# Altium integrated library TI Power Management Lighting and Display.IntLib: 745 symbols (part 1 of 48)
Pins are listed as number, name and electrical type; pins without a type are passive.

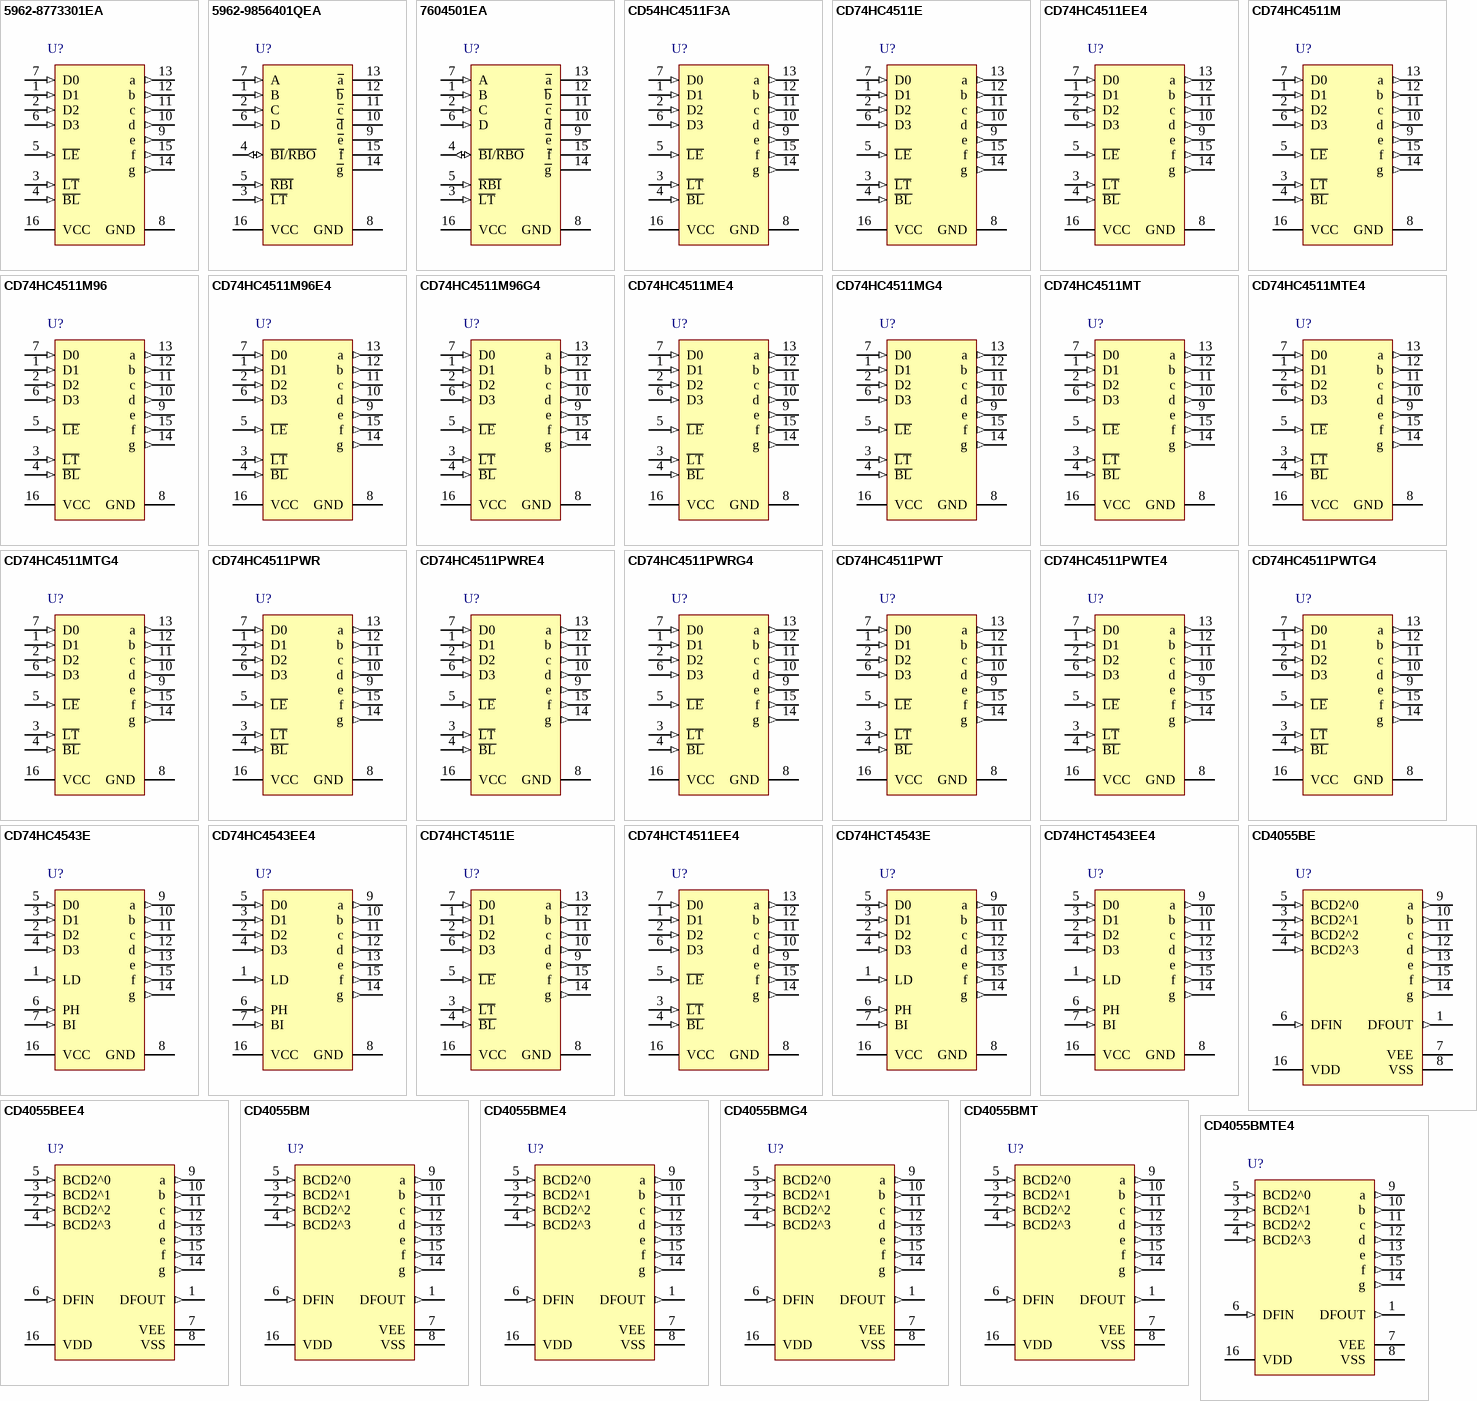
[diagram p0: symbols 5962-8773301EA to CD4055BMTE4]

## 5962-8773301EA
designator U?
High Speed CMOS Logic BCD-to-7-Segment Latch / Decoder / Driver, 2 to 6 V, -55 to 125 degC, 16-pin DIP (J16); Manufacturer: Texas Instruments; PartNumber: 5962-8773301EA; Rating: Military; SubFamily: Discrete Segment LED Driver; Vin(Max)(V): 6; Vin(Min)(V): 2; DatasheetVersion: SCHS279D; PackageVersion: 4040083/F; PackageReference: J16; PackageDescription: 16-pin, Ceramic, Glass In-Line, Row Spacing 7.62 mm, Pitch 2.54 mm; Mounting Technology: Through Hole; ComponentLink1Description: Manufacturer URL; ComponentLink1URL: http://www.ti.com/; ComponentLink2Description: Datasheet; ComponentLink2URL: http://www.ti.com/general/docs/lit/getliterature.tsp?genericPartNumber=CD54HC4511&fileType=pdf; ComponentLink3Description: Package Specification; ComponentLink3URL: http://www.ti.com/lit/ds/symlink/uc1543.pdf
footprint TI-J16 (DIP, 16-Leads, Body 21.34x6.92 mm, Pitch 2.54 mm)
pins: 1 D1 (in), 2 D2 (in), 3 ~{LT} (in), 4 ~{BL} (in), 5 ~{LE} (in), 6 D3 (in), 7 D0 (in), 8 GND (power), 9 e (out), 10 d (out), 11 c (out), 12 b (out), 13 a (out), 14 g (out), 15 f (out), 16 VCC (power)

## 5962-9856401QEA
designator U?
BCD-to-7-Segment Decoder / Driver, 4.5 to 5.5 V, -55 to 125 degC, 16-pin DIP (J16); Manufacturer: Texas Instruments; PartNumber: 5962-9856401QEA; SubFamily: Discrete Segment LED Driver; Vin(Max)(V): 5.5; Vin(Min)(V): 4.5; DatasheetVersion: SDLS111; PackageVersion: 4040083/F; PackageReference: J16; PackageDescription: 16-pin, Ceramic, Glass In-Line, Row Spacing 7.62 mm, Pitch 2.54 mm; Mounting Technology: Through Hole; ComponentLink1Description: Manufacturer URL; ComponentLink1URL: http://www.ti.com/; ComponentLink2Description: Datasheet; ComponentLink2URL: http://www.ti.com/general/docs/lit/getliterature.tsp?genericPartNumber=SN5447A&fileType=pdf; ComponentLink3Description: Package Specification; ComponentLink3URL: http://www.ti.com/lit/ds/symlink/uc1543.pdf
footprint TI-J16 (DIP, 16-Leads, Body 21.34x6.92 mm, Pitch 2.54 mm)
pins: 1 B (in), 2 C (in), 3 ~{LT} (in), 4 ~{BI}/~{RBO} (io), 5 ~{RBI} (in), 6 D (in), 7 A (in), 8 GND (power), 9 ~{e} (oc), 10 ~{d} (oc), 11 ~{c} (oc), 12 ~{b} (oc), 13 ~{a} (oc), 14 ~{g} (oc), 15 ~{f} (oc), 16 VCC (power)

## 7604501EA
designator U?
BCD-to-7-Segment Decoder / Driver, 4.5 to 5.5 V, -55 to 125 degC, 16-pin DIP (J16); Manufacturer: Texas Instruments; PartNumber: 7604501EA; Rating: Military; SubFamily: Discrete Segment LED Driver; Vin(Max)(V): 5.5; Vin(Min)(V): 4.5; DatasheetVersion: SDLS111; PackageVersion: 4040083/F; PackageReference: J16; PackageDescription: 16-pin, Ceramic, Glass In-Line, Row Spacing 7.62 mm, Pitch 2.54 mm; Mounting Technology: Through Hole; ComponentLink1Description: Manufacturer URL; ComponentLink1URL: http://www.ti.com/; ComponentLink2Description: Datasheet; ComponentLink2URL: http://www.ti.com/general/docs/lit/getliterature.tsp?genericPartNumber=SN54LS47&fileType=pdf; ComponentLink3Description: Package Specification; ComponentLink3URL: http://www.ti.com/lit/ds/symlink/uc1543.pdf
footprint TI-J16 (DIP, 16-Leads, Body 21.34x6.92 mm, Pitch 2.54 mm)
pins: 1 B (in), 2 C (in), 3 ~{LT} (in), 4 ~{BI}/~{RBO} (io), 5 ~{RBI} (in), 6 D (in), 7 A (in), 8 GND (power), 9 ~{e} (oc), 10 ~{d} (oc), 11 ~{c} (oc), 12 ~{b} (oc), 13 ~{a} (oc), 14 ~{g} (oc), 15 ~{f} (oc), 16 VCC (power)

## CD54HC4511F3A
designator U?
High Speed CMOS Logic BCD-to-7-Segment Latch / Decoder / Driver, 2 to 6 V, -55 to 125 degC, 16-pin DIP (J16); Manufacturer: Texas Instruments; PartNumber: CD54HC4511F3A; Rating: Military; SubFamily: Discrete Segment LED Driver; Vin(Max)(V): 6; Vin(Min)(V): 2; DatasheetVersion: SCHS279D; PackageVersion: 4040083/F; PackageReference: J16; PackageDescription: 16-Pin Ceramic, Glass In-Line, Row Spacing 7.62 mm, Pitch 2.54 mm; Mounting Technology: Through Hole; ComponentLink1Description: Manufacturer URL; ComponentLink1URL: http://www.ti.com/; ComponentLink2Description: Datasheet; ComponentLink2URL: http://www.ti.com/general/docs/lit/getliterature.tsp?genericPartNumber=CD54HC4511&fileType=pdf; ComponentLink3Description: Package Specification; ComponentLink3URL: http://www.ti.com/litv/pdf/mcer002d
footprint TI-J16 (DIP, 16-Leads, Body 21.34x6.92mm, Row Spacing 7.62mm, Pitch 2.54mm)
pins: 1 D1 (in), 2 D2 (in), 3 ~{LT} (in), 4 ~{BL} (in), 5 ~{LE} (in), 6 D3 (in), 7 D0 (in), 8 GND (power), 9 e (out), 10 d (out), 11 c (out), 12 b (out), 13 a (out), 14 g (out), 15 f (out), 16 VCC (power)

## CD74HC4511E
designator U?
High Speed CMOS Logic BCD-to-7-Segment Latch / Decoder / Driver, 2 to 6 V, -55 to 125 degC, 16-pin DIP (N16), Pb-Free (RoHS); Manufacturer: Texas Instruments; PartNumber: CD74HC4511E; Rating: Catalog; SubFamily: Discrete Segment LED Driver; Vin(Max)(V): 6; Vin(Min)(V): 2; DatasheetVersion: SCHS279D; PackageVersion: 4040049/E; PackageReference: N16; PackageDescription: 16-Pin Plastic In-Line, Body 19.305 x 6.35 mm, Pitch 2.54 mm; Supplier 1: Digi-Key; Supplier Part Number 1: 296-14537-5-ND; Supplier 2: Farnell; Supplier Part Number 2: 1607681; Supplier 3: Newark; Supplier Part Number 3: 60K5164; Supplier 4: Mouser; Supplier Part Number 4: 595-CD74HC4511E; Eco-Plan: Pb-Free (RoHS); Mounting Technology: Through Hole; Code_JEDEC: MS-001; ComponentLink1Description: Manufacturer URL; ComponentLink1URL: http://www.ti.com/; ComponentLink2Description: Datasheet; ComponentLink2URL: http://www.ti.com/general/docs/lit/getliterature.tsp?genericPartNumber=CD74HC4511&fileType=pdf; ComponentLink3Description: Package Specification; ComponentLink3URL: http://www.ti.com/litv/pdf/mpdi002c
footprint TI-N16 (DIP, 16-Leads, Body 19.305x6.35 mm, Pitch 2.54 mm)
pins: 1 D1 (in), 2 D2 (in), 3 ~{LT} (in), 4 ~{BL} (in), 5 ~{LE} (in), 6 D3 (in), 7 D0 (in), 8 GND (power), 9 e (out), 10 d (out), 11 c (out), 12 b (out), 13 a (out), 14 g (out), 15 f (out), 16 VCC (power)

## CD74HC4511EE4
designator U?
High Speed CMOS Logic BCD-to-7-Segment Latch / Decoder / Driver, 2 to 6 V, -55 to 125 degC, 16-pin DIP (N16), Pb-Free (RoHS); Manufacturer: Texas Instruments; PartNumber: CD74HC4511EE4; Rating: Catalog; SubFamily: Discrete Segment LED Driver; Vin(Max)(V): 6; Vin(Min)(V): 2; DatasheetVersion: SCHS279D; PackageVersion: 4040049/E; PackageReference: N16; PackageDescription: 16-Pin Plastic In-Line, Body 19.305 x 6.35 mm, Pitch 2.54 mm; Supplier 1: Digi-Key; Supplier Part Number 1: CD74HC4511EE4-ND; Supplier 2: Newark; Supplier Part Number 2: 36K9762; Supplier 3: Mouser; Supplier Part Number 3: 595-CD74HC4511EE4; Eco-Plan: Pb-Free (RoHS); Mounting Technology: Through Hole; Code_JEDEC: MS-001; ComponentLink1Description: Manufacturer URL; ComponentLink1URL: http://www.ti.com/; ComponentLink2Description: Datasheet; ComponentLink2URL: http://www.ti.com/general/docs/lit/getliterature.tsp?genericPartNumber=CD74HC4511&fileType=pdf; ComponentLink3Description: Package Specification; ComponentLink3URL: http://www.ti.com/litv/pdf/mpdi002c
footprint TI-N16 (DIP, 16-Leads, Body 19.305x6.35 mm, Pitch 2.54 mm)
pins: 1 D1 (in), 2 D2 (in), 3 ~{LT} (in), 4 ~{BL} (in), 5 ~{LE} (in), 6 D3 (in), 7 D0 (in), 8 GND (power), 9 e (out), 10 d (out), 11 c (out), 12 b (out), 13 a (out), 14 g (out), 15 f (out), 16 VCC (power)

## CD74HC4511M
designator U?
High Speed CMOS Logic BCD-to-7-Segment Latch / Decoder / Driver, 2 to 6 V, -55 to 125 degC, 16-pin SOIC (D16), Green (RoHS & no Sb/Br); Manufacturer: Texas Instruments; PartNumber: CD74HC4511M; Rating: Catalog; SubFamily: Discrete Segment LED Driver; Vin(Max)(V): 6; Vin(Min)(V): 2; DatasheetVersion: SCHS279D; PackageVersion: 4040047-6/M; PackageReference: D16; PackageDescription: 16-Pin Plastic Small Outline, Body 9.90 x 3.90 mm, Pitch 1.27 mm; Supplier 1: Digi-Key; Supplier Part Number 1: 296-9232-5-ND; Supplier 2: Farnell; Supplier Part Number 2: 1740056; Supplier 3: Newark; Supplier Part Number 3: 50R5451; Supplier 4: Newark; Supplier Part Number 4: 66F5517; Supplier 5: Mouser; Supplier Part Number 5: 595-CD74HC4511M; Eco-Plan: Green (RoHS & no Sb/Br); Mounting Technology: Surface Mount; Code_JEDEC: MS-012; ComponentLink1Description: Manufacturer URL; ComponentLink1URL: http://www.ti.com/; ComponentLink2Description: Datasheet; ComponentLink2URL: http://www.ti.com/general/docs/lit/getliterature.tsp?genericPartNumber=CD74HC4511&fileType=pdf; ComponentLink3Description: Package Specification; ComponentLink3URL: http://www.ti.com/litv/pdf/mpds178g
footprint TI-D16_N (SOIC, 16-Leads, Body 9.9x3.9mm, Pitch 1.27mm, IPC Medium Density)
footprint TI-D16_L (SOIC, 16-Leads, Body 9.9x3.9mm, Pitch 1.27mm, IPC High Density)
footprint TI-D16_M (SOIC, 16-Leads, Body 9.9x3.9mm, Pitch 1.27mm, IPC Low Density)
pins: 1 D1 (in), 2 D2 (in), 3 ~{LT} (in), 4 ~{BL} (in), 5 ~{LE} (in), 6 D3 (in), 7 D0 (in), 8 GND (power), 9 e (out), 10 d (out), 11 c (out), 12 b (out), 13 a (out), 14 g (out), 15 f (out), 16 VCC (power)

## CD74HC4511M96
designator U?
High Speed CMOS Logic BCD-to-7-Segment Latch / Decoder / Driver, 2 to 6 V, -55 to 125 degC, 16-pin SOIC (D16), Green (RoHS & no Sb/Br); Manufacturer: Texas Instruments; PartNumber: CD74HC4511M96; Rating: Catalog; SubFamily: Discrete Segment LED Driver; Vin(Max)(V): 6; Vin(Min)(V): 2; DatasheetVersion: SCHS279D; PackageVersion: 4040047-6/M; PackageReference: D16; PackageDescription: 16-Pin Plastic Small Outline, Body 9.90 x 3.90 mm, Pitch 1.27 mm; Supplier 1: Digi-Key; Supplier Part Number 1: 296-24355-2-ND; Supplier 2: Digi-Key; Supplier Part Number 2: 296-24355-1-ND; Supplier 3: Digi-Key; Supplier Part Number 3: 296-24355-6-ND; Supplier 4: Newark; Supplier Part Number 4: 74C8320; Supplier 5: Mouser; Supplier Part Number 5: 595-CD74HC4511M96; Eco-Plan: Green (RoHS & no Sb/Br); Mounting Technology: Surface Mount; Code_JEDEC: MS-012; ComponentLink1Description: Manufacturer URL; ComponentLink1URL: http://www.ti.com/; ComponentLink2Description: Datasheet; ComponentLink2URL: http://www.ti.com/general/docs/lit/getliterature.tsp?genericPartNumber=CD74HC4511&fileType=pdf; ComponentLink3Description: Package Specification; ComponentLink3URL: http://www.ti.com/litv/pdf/mpds178g
footprint TI-D16_N (SOIC, 16-Leads, Body 9.9x3.9mm, Pitch 1.27mm, IPC Medium Density)
footprint TI-D16_L (SOIC, 16-Leads, Body 9.9x3.9mm, Pitch 1.27mm, IPC High Density)
footprint TI-D16_M (SOIC, 16-Leads, Body 9.9x3.9mm, Pitch 1.27mm, IPC Low Density)
pins: 1 D1 (in), 2 D2 (in), 3 ~{LT} (in), 4 ~{BL} (in), 5 ~{LE} (in), 6 D3 (in), 7 D0 (in), 8 GND (power), 9 e (out), 10 d (out), 11 c (out), 12 b (out), 13 a (out), 14 g (out), 15 f (out), 16 VCC (power)

## CD74HC4511M96E4
designator U?
High Speed CMOS Logic BCD-to-7-Segment Latch / Decoder / Driver, 2 to 6 V, -55 to 125 degC, 16-pin SOIC (D16), Green (RoHS & no Sb/Br); Manufacturer: Texas Instruments; PartNumber: CD74HC4511M96E4; Rating: Catalog; SubFamily: Discrete Segment LED Driver; Vin(Max)(V): 6; Vin(Min)(V): 2; DatasheetVersion: SCHS279D; PackageVersion: 4040047-6/M; PackageReference: D16; PackageDescription: 16-Pin Plastic Small Outline, Body 9.90 x 3.90 mm, Pitch 1.27 mm; Supplier 1: Digi-Key; Supplier Part Number 1: CD74HC4511M96E4-ND; Supplier 2: Mouser; Supplier Part Number 2: 595-CD74HC4511M96E4; Eco-Plan: Green (RoHS & no Sb/Br); Mounting Technology: Surface Mount; Code_JEDEC: MS-012; ComponentLink1Description: Manufacturer URL; ComponentLink1URL: http://www.ti.com/; ComponentLink2Description: Datasheet; ComponentLink2URL: http://www.ti.com/general/docs/lit/getliterature.tsp?genericPartNumber=CD74HC4511&fileType=pdf; ComponentLink3Description: Package Specification; ComponentLink3URL: http://www.ti.com/litv/pdf/mpds178g
footprint TI-D16_N (SOIC, 16-Leads, Body 9.9x3.9mm, Pitch 1.27mm, IPC Medium Density)
footprint TI-D16_L (SOIC, 16-Leads, Body 9.9x3.9mm, Pitch 1.27mm, IPC High Density)
footprint TI-D16_M (SOIC, 16-Leads, Body 9.9x3.9mm, Pitch 1.27mm, IPC Low Density)
pins: 1 D1 (in), 2 D2 (in), 3 ~{LT} (in), 4 ~{BL} (in), 5 ~{LE} (in), 6 D3 (in), 7 D0 (in), 8 GND (power), 9 e (out), 10 d (out), 11 c (out), 12 b (out), 13 a (out), 14 g (out), 15 f (out), 16 VCC (power)

## CD74HC4511M96G4
designator U?
High Speed CMOS Logic BCD-to-7-Segment Latch / Decoder / Driver, 2 to 6 V, -55 to 125 degC, 16-pin SOIC (D16), Green (RoHS & no Sb/Br); Manufacturer: Texas Instruments; PartNumber: CD74HC4511M96G4; Rating: Catalog; SubFamily: Discrete Segment LED Driver; Vin(Max)(V): 6; Vin(Min)(V): 2; DatasheetVersion: SCHS279D; PackageVersion: 4040047-6/M; PackageReference: D16; PackageDescription: 16-Pin Plastic Small Outline, Body 9.90 x 3.90 mm, Pitch 1.27 mm; Supplier 1: Digi-Key; Supplier Part Number 1: CD74HC4511M96G4-ND; Supplier 2: Newark; Supplier Part Number 2: 41M3083; Supplier 3: Mouser; Supplier Part Number 3: 595-CD74HC4511M96G4; Eco-Plan: Green (RoHS & no Sb/Br); Mounting Technology: Surface Mount; Code_JEDEC: MS-012; ComponentLink1Description: Manufacturer URL; ComponentLink1URL: http://www.ti.com/; ComponentLink2Description: Datasheet; ComponentLink2URL: http://www.ti.com/general/docs/lit/getliterature.tsp?genericPartNumber=CD74HC4511&fileType=pdf; ComponentLink3Description: Package Specification; ComponentLink3URL: http://www.ti.com/litv/pdf/mpds178g
footprint TI-D16_N (SOIC, 16-Leads, Body 9.9x3.9mm, Pitch 1.27mm, IPC Medium Density)
footprint TI-D16_L (SOIC, 16-Leads, Body 9.9x3.9mm, Pitch 1.27mm, IPC High Density)
footprint TI-D16_M (SOIC, 16-Leads, Body 9.9x3.9mm, Pitch 1.27mm, IPC Low Density)
pins: 1 D1 (in), 2 D2 (in), 3 ~{LT} (in), 4 ~{BL} (in), 5 ~{LE} (in), 6 D3 (in), 7 D0 (in), 8 GND (power), 9 e (out), 10 d (out), 11 c (out), 12 b (out), 13 a (out), 14 g (out), 15 f (out), 16 VCC (power)

## CD74HC4511ME4
designator U?
High Speed CMOS Logic BCD-to-7-Segment Latch / Decoder / Driver, 2 to 6 V, -55 to 125 degC, 16-pin SOIC (D16), Green (RoHS & no Sb/Br); Manufacturer: Texas Instruments; PartNumber: CD74HC4511ME4; Rating: Catalog; SubFamily: Discrete Segment LED Driver; Vin(Max)(V): 6; Vin(Min)(V): 2; DatasheetVersion: SCHS279D; PackageVersion: 4040047-6/M; PackageReference: D16; PackageDescription: 16-Pin Plastic Small Outline, Body 9.90 x 3.90 mm, Pitch 1.27 mm; Supplier 1: Digi-Key; Supplier Part Number 1: CD74HC4511ME4-ND; Supplier 2: Mouser; Supplier Part Number 2: 595-CD74HC4511ME4; Eco-Plan: Green (RoHS & no Sb/Br); Mounting Technology: Surface Mount; Code_JEDEC: MS-012; ComponentLink1Description: Manufacturer URL; ComponentLink1URL: http://www.ti.com/; ComponentLink2Description: Datasheet; ComponentLink2URL: http://www.ti.com/general/docs/lit/getliterature.tsp?genericPartNumber=CD74HC4511&fileType=pdf; ComponentLink3Description: Package Specification; ComponentLink3URL: http://www.ti.com/litv/pdf/mpds178g
footprint TI-D16_N (SOIC, 16-Leads, Body 9.9x3.9mm, Pitch 1.27mm, IPC Medium Density)
footprint TI-D16_L (SOIC, 16-Leads, Body 9.9x3.9mm, Pitch 1.27mm, IPC High Density)
footprint TI-D16_M (SOIC, 16-Leads, Body 9.9x3.9mm, Pitch 1.27mm, IPC Low Density)
pins: 1 D1 (in), 2 D2 (in), 3 ~{LT} (in), 4 ~{BL} (in), 5 ~{LE} (in), 6 D3 (in), 7 D0 (in), 8 GND (power), 9 e (out), 10 d (out), 11 c (out), 12 b (out), 13 a (out), 14 g (out), 15 f (out), 16 VCC (power)

## CD74HC4511MG4
designator U?
High Speed CMOS Logic BCD-to-7-Segment Latch / Decoder / Driver, 2 to 6 V, -55 to 125 degC, 16-pin SOIC (D16), Green (RoHS & no Sb/Br); Manufacturer: Texas Instruments; PartNumber: CD74HC4511MG4; Rating: Catalog; SubFamily: Discrete Segment LED Driver; Vin(Max)(V): 6; Vin(Min)(V): 2; DatasheetVersion: SCHS279D; PackageVersion: 4040047-6/M; PackageReference: D16; PackageDescription: 16-Pin Plastic Small Outline, Body 9.90 x 3.90 mm, Pitch 1.27 mm; Supplier 1: Digi-Key; Supplier Part Number 1: CD74HC4511MG4-ND; Supplier 2: Mouser; Supplier Part Number 2: 595-CD74HC4511MG4; Eco-Plan: Green (RoHS & no Sb/Br); Mounting Technology: Surface Mount; Code_JEDEC: MS-012; ComponentLink1Description: Manufacturer URL; ComponentLink1URL: http://www.ti.com/; ComponentLink2Description: Datasheet; ComponentLink2URL: http://www.ti.com/general/docs/lit/getliterature.tsp?genericPartNumber=CD74HC4511&fileType=pdf; ComponentLink3Description: Package Specification; ComponentLink3URL: http://www.ti.com/litv/pdf/mpds178g
footprint TI-D16_N (SOIC, 16-Leads, Body 9.9x3.9mm, Pitch 1.27mm, IPC Medium Density)
footprint TI-D16_L (SOIC, 16-Leads, Body 9.9x3.9mm, Pitch 1.27mm, IPC High Density)
footprint TI-D16_M (SOIC, 16-Leads, Body 9.9x3.9mm, Pitch 1.27mm, IPC Low Density)
pins: 1 D1 (in), 2 D2 (in), 3 ~{LT} (in), 4 ~{BL} (in), 5 ~{LE} (in), 6 D3 (in), 7 D0 (in), 8 GND (power), 9 e (out), 10 d (out), 11 c (out), 12 b (out), 13 a (out), 14 g (out), 15 f (out), 16 VCC (power)

## CD74HC4511MT
designator U?
High Speed CMOS Logic BCD-to-7-Segment Latch / Decoder / Driver, 2 to 6 V, -55 to 125 degC, 16-pin SOIC (D16), Green (RoHS & no Sb/Br); Manufacturer: Texas Instruments; PartNumber: CD74HC4511MT; Rating: Catalog; SubFamily: Discrete Segment LED Driver; Vin(Max)(V): 6; Vin(Min)(V): 2; DatasheetVersion: SCHS279D; PackageVersion: 4040047-6/M; PackageReference: D16; PackageDescription: 16-Pin Plastic Small Outline, Body 9.90 x 3.90 mm, Pitch 1.27 mm; Supplier 1: Digi-Key; Supplier Part Number 1: CD74HC4511MT-ND; Supplier 2: Farnell; Supplier Part Number 2: 1753718; Supplier 3: Farnell; Supplier Part Number 3: 1753718RL; Supplier 4: Newark; Supplier Part Number 4: 86H9765; Supplier 5: Mouser; Supplier Part Number 5: 595-CD74HC4511MT; Eco-Plan: Green (RoHS & no Sb/Br); Mounting Technology: Surface Mount; Code_JEDEC: MS-012; ComponentLink1Description: Manufacturer URL; ComponentLink1URL: http://www.ti.com/; ComponentLink2Description: Datasheet; ComponentLink2URL: http://www.ti.com/general/docs/lit/getliterature.tsp?genericPartNumber=CD74HC4511&fileType=pdf; ComponentLink3Description: Package Specification; ComponentLink3URL: http://www.ti.com/litv/pdf/mpds178g
footprint TI-D16_N (SOIC, 16-Leads, Body 9.9x3.9mm, Pitch 1.27mm, IPC Medium Density)
footprint TI-D16_L (SOIC, 16-Leads, Body 9.9x3.9mm, Pitch 1.27mm, IPC High Density)
footprint TI-D16_M (SOIC, 16-Leads, Body 9.9x3.9mm, Pitch 1.27mm, IPC Low Density)
pins: 1 D1 (in), 2 D2 (in), 3 ~{LT} (in), 4 ~{BL} (in), 5 ~{LE} (in), 6 D3 (in), 7 D0 (in), 8 GND (power), 9 e (out), 10 d (out), 11 c (out), 12 b (out), 13 a (out), 14 g (out), 15 f (out), 16 VCC (power)

## CD74HC4511MTE4
designator U?
High Speed CMOS Logic BCD-to-7-Segment Latch / Decoder / Driver, 2 to 6 V, -55 to 125 degC, 16-pin SOIC (D16), Green (RoHS & no Sb/Br); Manufacturer: Texas Instruments; PartNumber: CD74HC4511MTE4; Rating: Catalog; SubFamily: Discrete Segment LED Driver; Vin(Max)(V): 6; Vin(Min)(V): 2; DatasheetVersion: SCHS279D; PackageVersion: 4040047-6/M; PackageReference: D16; PackageDescription: 16-Pin Plastic Small Outline, Body 9.90 x 3.90 mm, Pitch 1.27 mm; Supplier 1: Digi-Key; Supplier Part Number 1: CD74HC4511MTE4-ND; Supplier 2: Newark; Supplier Part Number 2: 36K9764; Supplier 3: Mouser; Supplier Part Number 3: 595-CD74HC4511MTE4; Eco-Plan: Green (RoHS & no Sb/Br); Mounting Technology: Surface Mount; Code_JEDEC: MS-012; ComponentLink1Description: Manufacturer URL; ComponentLink1URL: http://www.ti.com/; ComponentLink2Description: Datasheet; ComponentLink2URL: http://www.ti.com/general/docs/lit/getliterature.tsp?genericPartNumber=CD74HC4511&fileType=pdf; ComponentLink3Description: Package Specification; ComponentLink3URL: http://www.ti.com/litv/pdf/mpds178g
footprint TI-D16_N (SOIC, 16-Leads, Body 9.9x3.9mm, Pitch 1.27mm, IPC Medium Density)
footprint TI-D16_L (SOIC, 16-Leads, Body 9.9x3.9mm, Pitch 1.27mm, IPC High Density)
footprint TI-D16_M (SOIC, 16-Leads, Body 9.9x3.9mm, Pitch 1.27mm, IPC Low Density)
pins: 1 D1 (in), 2 D2 (in), 3 ~{LT} (in), 4 ~{BL} (in), 5 ~{LE} (in), 6 D3 (in), 7 D0 (in), 8 GND (power), 9 e (out), 10 d (out), 11 c (out), 12 b (out), 13 a (out), 14 g (out), 15 f (out), 16 VCC (power)

## CD74HC4511MTG4
designator U?
High Speed CMOS Logic BCD-to-7-Segment Latch / Decoder / Driver, 2 to 6 V, -55 to 125 degC, 16-pin SOIC (D16), Green (RoHS & no Sb/Br); Manufacturer: Texas Instruments; PartNumber: CD74HC4511MTG4; Rating: Catalog; SubFamily: Discrete Segment LED Driver; Vin(Max)(V): 6; Vin(Min)(V): 2; DatasheetVersion: SCHS279D; PackageVersion: 4040047-6/M; PackageReference: D16; PackageDescription: 16-Pin Plastic Small Outline, Body 9.90 x 3.90 mm, Pitch 1.27 mm; Supplier 1: Digi-Key; Supplier Part Number 1: CD74HC4511MTG4-ND; Supplier 2: Mouser; Supplier Part Number 2: 595-CD74HC4511MTG4; Eco-Plan: Green (RoHS & no Sb/Br); Mounting Technology: Surface Mount; Code_JEDEC: MS-012; ComponentLink1Description: Manufacturer URL; ComponentLink1URL: http://www.ti.com/; ComponentLink2Description: Datasheet; ComponentLink2URL: http://www.ti.com/general/docs/lit/getliterature.tsp?genericPartNumber=CD74HC4511&fileType=pdf; ComponentLink3Description: Package Specification; ComponentLink3URL: http://www.ti.com/litv/pdf/mpds178g
footprint TI-D16_N (SOIC, 16-Leads, Body 9.9x3.9mm, Pitch 1.27mm, IPC Medium Density)
footprint TI-D16_L (SOIC, 16-Leads, Body 9.9x3.9mm, Pitch 1.27mm, IPC High Density)
footprint TI-D16_M (SOIC, 16-Leads, Body 9.9x3.9mm, Pitch 1.27mm, IPC Low Density)
pins: 1 D1 (in), 2 D2 (in), 3 ~{LT} (in), 4 ~{BL} (in), 5 ~{LE} (in), 6 D3 (in), 7 D0 (in), 8 GND (power), 9 e (out), 10 d (out), 11 c (out), 12 b (out), 13 a (out), 14 g (out), 15 f (out), 16 VCC (power)

## CD74HC4511PWR
designator U?
High Speed CMOS Logic BCD-to-7-Segment Latch / Decoder / Driver, 2 to 6 V, -55 to 125 degC, 16-pin SOP (PW16), Green (RoHS & no Sb/Br); Manufacturer: Texas Instruments; PartNumber: CD74HC4511PWR; Rating: Catalog; SubFamily: Discrete Segment LED Driver; Vin(Max)(V): 6; Vin(Min)(V): 2; DatasheetVersion: SCHS279D; PackageVersion: 4040064-4/G; PackageReference: PW16; PackageDescription: 16-Pin Plastic Small Outline, Body 4.40 x 5.00 mm, Pitch 0.65 mm; Supplier 1: Digi-Key; Supplier Part Number 1: 296-23208-2-ND; Supplier 2: Digi-Key; Supplier Part Number 2: 296-23208-1-ND; Supplier 3: Digi-Key; Supplier Part Number 3: 296-23208-6-ND; Supplier 4: Newark; Supplier Part Number 4: 74C8321; Supplier 5: Mouser; Supplier Part Number 5: 595-CD74HC4511PWR; Eco-Plan: Green (RoHS & no Sb/Br); Mounting Technology: Surface Mount; Code_JEDEC: MO-153; ComponentLink1Description: Manufacturer URL; ComponentLink1URL: http://www.ti.com/; ComponentLink2Description: Datasheet; ComponentLink2URL: http://www.ti.com/general/docs/lit/getliterature.tsp?genericPartNumber=CD74HC4511&fileType=pdf; ComponentLink3Description: Package Specification; ComponentLink3URL: http://www.ti.com/lit/ml/mpds361/mpds361.pdf
footprint TI-PW16_N (SOP, 16-Leads, Body 5x4.4mm, Pitch 0.65mm, IPC Medium Density)
footprint TI-PW16_L (SOP, 16-Leads, Body 5x4.4mm, Pitch 0.65mm, IPC High Density)
footprint TI-PW16_M (SOP, 16-Leads, Body 5x4.4mm, Pitch 0.65mm, IPC Low Density)
pins: 1 D1 (in), 2 D2 (in), 3 ~{LT} (in), 4 ~{BL} (in), 5 ~{LE} (in), 6 D3 (in), 7 D0 (in), 8 GND (power), 9 e (out), 10 d (out), 11 c (out), 12 b (out), 13 a (out), 14 g (out), 15 f (out), 16 VCC (power)

## CD74HC4511PWRE4
designator U?
High Speed CMOS Logic BCD-to-7-Segment Latch / Decoder / Driver, 2 to 6 V, -55 to 125 degC, 16-pin SOP (PW16), Green (RoHS & no Sb/Br); Manufacturer: Texas Instruments; PartNumber: CD74HC4511PWRE4; Rating: Catalog; SubFamily: Discrete Segment LED Driver; Vin(Max)(V): 6; Vin(Min)(V): 2; DatasheetVersion: SCHS279D; PackageVersion: 4040064-4/G; PackageReference: PW16; PackageDescription: 16-Pin Plastic Small Outline, Body 4.40 x 5.00 mm, Pitch 0.65 mm; Supplier 1: Digi-Key; Supplier Part Number 1: CD74HC4511PWRE4-ND; Supplier 2: Mouser; Supplier Part Number 2: 595-CD74HC4511PWRE4; Eco-Plan: Green (RoHS & no Sb/Br); Mounting Technology: Surface Mount; Code_JEDEC: MO-153; ComponentLink1Description: Manufacturer URL; ComponentLink1URL: http://www.ti.com/; ComponentLink2Description: Datasheet; ComponentLink2URL: http://www.ti.com/general/docs/lit/getliterature.tsp?genericPartNumber=CD74HC4511&fileType=pdf; ComponentLink3Description: Package Specification; ComponentLink3URL: http://www.ti.com/lit/ml/mpds361/mpds361.pdf
footprint TI-PW16_N (SOP, 16-Leads, Body 5x4.4mm, Pitch 0.65mm, IPC Medium Density)
footprint TI-PW16_L (SOP, 16-Leads, Body 5x4.4mm, Pitch 0.65mm, IPC High Density)
footprint TI-PW16_M (SOP, 16-Leads, Body 5x4.4mm, Pitch 0.65mm, IPC Low Density)
pins: 1 D1 (in), 2 D2 (in), 3 ~{LT} (in), 4 ~{BL} (in), 5 ~{LE} (in), 6 D3 (in), 7 D0 (in), 8 GND (power), 9 e (out), 10 d (out), 11 c (out), 12 b (out), 13 a (out), 14 g (out), 15 f (out), 16 VCC (power)

## CD74HC4511PWRG4
designator U?
High Speed CMOS Logic BCD-to-7-Segment Latch / Decoder / Driver, 2 to 6 V, -55 to 125 degC, 16-pin SOP (PW16), Green (RoHS & no Sb/Br); Manufacturer: Texas Instruments; PartNumber: CD74HC4511PWRG4; Rating: Catalog; SubFamily: Discrete Segment LED Driver; Vin(Max)(V): 6; Vin(Min)(V): 2; DatasheetVersion: SCHS279D; PackageVersion: 4040064-4/G; PackageReference: PW16; PackageDescription: 16-Pin Plastic Small Outline, Body 4.40 x 5.00 mm, Pitch 0.65 mm; Supplier 1: Digi-Key; Supplier Part Number 1: CD74HC4511PWRG4-ND; Supplier 2: Newark; Supplier Part Number 2: 46M6414; Supplier 3: Mouser; Supplier Part Number 3: 595-CD74HC4511PWRG4; Eco-Plan: Green (RoHS & no Sb/Br); Mounting Technology: Surface Mount; Code_JEDEC: MO-153; ComponentLink1Description: Manufacturer URL; ComponentLink1URL: http://www.ti.com/; ComponentLink2Description: Datasheet; ComponentLink2URL: http://www.ti.com/general/docs/lit/getliterature.tsp?genericPartNumber=CD74HC4511&fileType=pdf; ComponentLink3Description: Package Specification; ComponentLink3URL: http://www.ti.com/lit/ml/mpds361/mpds361.pdf
footprint TI-PW16_N (SOP, 16-Leads, Body 5x4.4mm, Pitch 0.65mm, IPC Medium Density)
footprint TI-PW16_L (SOP, 16-Leads, Body 5x4.4mm, Pitch 0.65mm, IPC High Density)
footprint TI-PW16_M (SOP, 16-Leads, Body 5x4.4mm, Pitch 0.65mm, IPC Low Density)
pins: 1 D1 (in), 2 D2 (in), 3 ~{LT} (in), 4 ~{BL} (in), 5 ~{LE} (in), 6 D3 (in), 7 D0 (in), 8 GND (power), 9 e (out), 10 d (out), 11 c (out), 12 b (out), 13 a (out), 14 g (out), 15 f (out), 16 VCC (power)

## CD74HC4511PWT
designator U?
High Speed CMOS Logic BCD-to-7-Segment Latch / Decoder / Driver, 2 to 6 V, -55 to 125 degC, 16-pin SOP (PW16), Green (RoHS & no Sb/Br); Manufacturer: Texas Instruments; PartNumber: CD74HC4511PWT; Rating: Catalog; SubFamily: Discrete Segment LED Driver; Vin(Max)(V): 6; Vin(Min)(V): 2; DatasheetVersion: SCHS279D; PackageVersion: 4040064-4/G; PackageReference: PW16; PackageDescription: 16-Pin Plastic Small Outline, Body 4.40 x 5.00 mm, Pitch 0.65 mm; Supplier 1: Digi-Key; Supplier Part Number 1: 296-32073-2-ND; Supplier 2: Digi-Key; Supplier Part Number 2: 296-32073-1-ND; Supplier 3: Digi-Key; Supplier Part Number 3: 296-32073-6-ND; Supplier 4: Farnell; Supplier Part Number 4: 1741577; Supplier 5: Farnell; Supplier Part Number 5: 1741577RL; Supplier 6: Newark; Supplier Part Number 6: 34R7086; Supplier 7: Newark; Supplier Part Number 7: 82H3224; Supplier 8: Mouser; Supplier Part Number 8: 595-CD74HC4511PWT; Eco-Plan: Green (RoHS & no Sb/Br); Mounting Technology: Surface Mount; Code_JEDEC: MO-153; ComponentLink1Description: Manufacturer URL; ComponentLink1URL: http://www.ti.com/; ComponentLink2Description: Datasheet; ComponentLink2URL: http://www.ti.com/general/docs/lit/getliterature.tsp?genericPartNumber=CD74HC4511&fileType=pdf; ComponentLink3Description: Package Specification; ComponentLink3URL: http://www.ti.com/lit/ml/mpds361/mpds361.pdf
footprint TI-PW16_N (SOP, 16-Leads, Body 5x4.4mm, Pitch 0.65mm, IPC Medium Density)
footprint TI-PW16_L (SOP, 16-Leads, Body 5x4.4mm, Pitch 0.65mm, IPC High Density)
footprint TI-PW16_M (SOP, 16-Leads, Body 5x4.4mm, Pitch 0.65mm, IPC Low Density)
pins: 1 D1 (in), 2 D2 (in), 3 ~{LT} (in), 4 ~{BL} (in), 5 ~{LE} (in), 6 D3 (in), 7 D0 (in), 8 GND (power), 9 e (out), 10 d (out), 11 c (out), 12 b (out), 13 a (out), 14 g (out), 15 f (out), 16 VCC (power)

## CD74HC4511PWTE4
designator U?
High Speed CMOS Logic BCD-to-7-Segment Latch / Decoder / Driver, 2 to 6 V, -55 to 125 degC, 16-pin SOP (PW16), Green (RoHS & no Sb/Br); Manufacturer: Texas Instruments; PartNumber: CD74HC4511PWTE4; Rating: Catalog; SubFamily: Discrete Segment LED Driver; Vin(Max)(V): 6; Vin(Min)(V): 2; DatasheetVersion: SCHS279D; PackageVersion: 4040064-4/G; PackageReference: PW16; PackageDescription: 16-Pin Plastic Small Outline, Body 4.40 x 5.00 mm, Pitch 0.65 mm; Supplier 1: Digi-Key; Supplier Part Number 1: CD74HC4511PWTE4-ND; Supplier 2: Newark; Supplier Part Number 2: 33K5103; Supplier 3: Mouser; Supplier Part Number 3: 595-CD74HC4511PWTE4; Eco-Plan: Green (RoHS & no Sb/Br); Mounting Technology: Surface Mount; Code_JEDEC: MO-153; ComponentLink1Description: Manufacturer URL; ComponentLink1URL: http://www.ti.com/; ComponentLink2Description: Datasheet; ComponentLink2URL: http://www.ti.com/general/docs/lit/getliterature.tsp?genericPartNumber=CD74HC4511&fileType=pdf; ComponentLink3Description: Package Specification; ComponentLink3URL: http://www.ti.com/lit/ml/mpds361/mpds361.pdf
footprint TI-PW16_N (SOP, 16-Leads, Body 5x4.4mm, Pitch 0.65mm, IPC Medium Density)
footprint TI-PW16_L (SOP, 16-Leads, Body 5x4.4mm, Pitch 0.65mm, IPC High Density)
footprint TI-PW16_M (SOP, 16-Leads, Body 5x4.4mm, Pitch 0.65mm, IPC Low Density)
pins: 1 D1 (in), 2 D2 (in), 3 ~{LT} (in), 4 ~{BL} (in), 5 ~{LE} (in), 6 D3 (in), 7 D0 (in), 8 GND (power), 9 e (out), 10 d (out), 11 c (out), 12 b (out), 13 a (out), 14 g (out), 15 f (out), 16 VCC (power)

## CD74HC4511PWTG4
designator U?
High Speed CMOS Logic BCD-to-7-Segment Latch / Decoder / Driver, 2 to 6 V, -55 to 125 degC, 16-pin SOP (PW16), Green (RoHS & no Sb/Br); Manufacturer: Texas Instruments; PartNumber: CD74HC4511PWTG4; Rating: Catalog; SubFamily: Discrete Segment LED Driver; Vin(Max)(V): 6; Vin(Min)(V): 2; DatasheetVersion: SCHS279D; PackageVersion: 4040064-4/G; PackageReference: PW16; PackageDescription: 16-Pin Plastic Small Outline, Body 4.40 x 5.00 mm, Pitch 0.65 mm; Supplier 1: Digi-Key; Supplier Part Number 1: CD74HC4511PWTG4-ND; Supplier 2: Newark; Supplier Part Number 2: 46M6415; Supplier 3: Mouser; Supplier Part Number 3: 595-CD74HC4511PWTG4; Eco-Plan: Green (RoHS & no Sb/Br); Mounting Technology: Surface Mount; Code_JEDEC: MO-153; ComponentLink1Description: Manufacturer URL; ComponentLink1URL: http://www.ti.com/; ComponentLink2Description: Datasheet; ComponentLink2URL: http://www.ti.com/general/docs/lit/getliterature.tsp?genericPartNumber=CD74HC4511&fileType=pdf; ComponentLink3Description: Package Specification; ComponentLink3URL: http://www.ti.com/lit/ml/mpds361/mpds361.pdf
footprint TI-PW16_N (SOP, 16-Leads, Body 5x4.4mm, Pitch 0.65mm, IPC Medium Density)
footprint TI-PW16_L (SOP, 16-Leads, Body 5x4.4mm, Pitch 0.65mm, IPC High Density)
footprint TI-PW16_M (SOP, 16-Leads, Body 5x4.4mm, Pitch 0.65mm, IPC Low Density)
pins: 1 D1 (in), 2 D2 (in), 3 ~{LT} (in), 4 ~{BL} (in), 5 ~{LE} (in), 6 D3 (in), 7 D0 (in), 8 GND (power), 9 e (out), 10 d (out), 11 c (out), 12 b (out), 13 a (out), 14 g (out), 15 f (out), 16 VCC (power)

## CD74HC4543E
designator U?
High Speed CMOS Logic BCD-to-7-Segment Latch / Decoder / Driver for LCDs, 2 to 6 V, -55 to 125 degC, 16-pin DIP (N16), Pb-Free (RoHS); Manufacturer: Texas Instruments; PartNumber: CD74HC4543E; Rating: Catalog; SubFamily: Discrete Segment LED Driver; Vin(Max)(V): 6; Vin(Min)(V): 2; DatasheetVersion: SCHS217B; PackageVersion: 4040049/E; PackageReference: N16; PackageDescription: 16-Pin Plastic In-Line, Body 19.305 x 6.35 mm, Pitch 2.54 mm; Supplier 1: Digi-Key; Supplier Part Number 1: 296-33104-5-ND; Supplier 2: Newark; Supplier Part Number 2: 06F3145; Supplier 3: Mouser; Supplier Part Number 3: 595-CD74HC4543E; Eco-Plan: Pb-Free (RoHS); Mounting Technology: Through Hole; Code_JEDEC: MS-001; ComponentLink1Description: Manufacturer URL; ComponentLink1URL: http://www.ti.com/; ComponentLink2Description: Datasheet; ComponentLink2URL: http://www.ti.com/general/docs/lit/getliterature.tsp?genericPartNumber=CD74HC4543&fileType=pdf; ComponentLink3Description: Package Specification; ComponentLink3URL: http://www.ti.com/litv/pdf/mpdi002c
footprint TI-N16 (DIP, 16-Leads, Body 19.305x6.35 mm, Pitch 2.54 mm)
pins: 1 LD (in), 2 D2 (in), 3 D1 (in), 4 D3 (in), 5 D0 (in), 6 PH (in), 7 BI (in), 8 GND (power), 9 a (out), 10 b (out), 11 c (out), 12 d (out), 13 e (out), 14 g (out), 15 f (out), 16 VCC (power)

## CD74HC4543EE4
designator U?
High Speed CMOS Logic BCD-to-7-Segment Latch / Decoder / Driver for LCDs, 2 to 6 V, -55 to 125 degC, 16-pin DIP (N16), Pb-Free (RoHS); Manufacturer: Texas Instruments; PartNumber: CD74HC4543EE4; Rating: Catalog; SubFamily: Discrete Segment LED Driver; Vin(Max)(V): 6; Vin(Min)(V): 2; DatasheetVersion: SCHS217B; PackageVersion: 4040049/E; PackageReference: N16; PackageDescription: 16-Pin Plastic In-Line, Body 19.305 x 6.35 mm, Pitch 2.54 mm; Supplier 1: Digi-Key; Supplier Part Number 1: CD74HC4543EE4-ND; Supplier 2: Mouser; Supplier Part Number 2: 595-CD74HC4543EE4; Eco-Plan: Pb-Free (RoHS); Mounting Technology: Through Hole; Code_JEDEC: MS-001; ComponentLink1Description: Manufacturer URL; ComponentLink1URL: http://www.ti.com/; ComponentLink2Description: Datasheet; ComponentLink2URL: http://www.ti.com/general/docs/lit/getliterature.tsp?genericPartNumber=CD74HC4543&fileType=pdf; ComponentLink3Description: Package Specification; ComponentLink3URL: http://www.ti.com/litv/pdf/mpdi002c
footprint TI-N16 (DIP, 16-Leads, Body 19.305x6.35 mm, Pitch 2.54 mm)
pins: 1 LD (in), 2 D2 (in), 3 D1 (in), 4 D3 (in), 5 D0 (in), 6 PH (in), 7 BI (in), 8 GND (power), 9 a (out), 10 b (out), 11 c (out), 12 d (out), 13 e (out), 14 g (out), 15 f (out), 16 VCC (power)

## CD74HCT4511E
designator U?
High Speed CMOS Logic BCD-to-7-Segment Latch / Decoder / Driver, 4.5 to 5.5 V, -55 to 125 degC, 16-pin DIP (N16), Pb-Free (RoHS); Manufacturer: Texas Instruments; PartNumber: CD74HCT4511E; Rating: Catalog; SubFamily: Discrete Segment LED Driver; Vin(Max)(V): 5.5; Vin(Min)(V): 4.5; DatasheetVersion: SCHS279D; PackageVersion: 4040049/E; PackageReference: N16; PackageDescription: 16-Pin Plastic In-Line, Body 19.305 x 6.35 mm, Pitch 2.54 mm; Supplier 1: Digi-Key; Supplier Part Number 1: 296-9282-5-ND; Supplier 2: Farnell; Supplier Part Number 2: 1750077; Supplier 3: Newark; Supplier Part Number 3: 50R5292; Supplier 4: Newark; Supplier Part Number 4: 74C8243; Supplier 5: Mouser; Supplier Part Number 5: 595-CD74HCT4511E; Eco-Plan: Pb-Free (RoHS); Mounting Technology: Through Hole; Code_JEDEC: MS-001; ComponentLink1Description: Manufacturer URL; ComponentLink1URL: http://www.ti.com/; ComponentLink2Description: Datasheet; ComponentLink2URL: http://www.ti.com/general/docs/lit/getliterature.tsp?genericPartNumber=CD74HCT4511&fileType=pdf; ComponentLink3Description: Package Specification; ComponentLink3URL: http://www.ti.com/litv/pdf/mpdi002c
footprint TI-N16 (DIP, 16-Leads, Body 19.305x6.35 mm, Pitch 2.54 mm)
pins: 1 D1 (in), 2 D2 (in), 3 ~{LT} (in), 4 ~{BL} (in), 5 ~{LE} (in), 6 D3 (in), 7 D0 (in), 8 GND (power), 9 e (out), 10 d (out), 11 c (out), 12 b (out), 13 a (out), 14 g (out), 15 f (out), 16 VCC (power)

## CD74HCT4511EE4
designator U?
High Speed CMOS Logic BCD-to-7-Segment Latch / Decoder / Driver, 4.5 to 5.5 V, -55 to 125 degC, 16-pin DIP (N16), Pb-Free (RoHS); Manufacturer: Texas Instruments; PartNumber: CD74HCT4511EE4; Rating: Catalog; SubFamily: Discrete Segment LED Driver; Vin(Max)(V): 5.5; Vin(Min)(V): 4.5; DatasheetVersion: SCHS279D; PackageVersion: 4040049/E; PackageReference: N16; PackageDescription: 16-Pin Plastic In-Line, Body 19.305 x 6.35 mm, Pitch 2.54 mm; Supplier 1: Digi-Key; Supplier Part Number 1: CD74HCT4511EE4-ND; Supplier 2: Newark; Supplier Part Number 2: 36K9374; Supplier 3: Mouser; Supplier Part Number 3: 595-CD74HCT4511EE4; Eco-Plan: Pb-Free (RoHS); Mounting Technology: Through Hole; Code_JEDEC: MS-001; ComponentLink1Description: Manufacturer URL; ComponentLink1URL: http://www.ti.com/; ComponentLink2Description: Datasheet; ComponentLink2URL: http://www.ti.com/general/docs/lit/getliterature.tsp?genericPartNumber=CD74HCT4511&fileType=pdf; ComponentLink3Description: Package Specification; ComponentLink3URL: http://www.ti.com/litv/pdf/mpdi002c
footprint TI-N16 (DIP, 16-Leads, Body 19.305x6.35 mm, Pitch 2.54 mm)
pins: 1 D1 (in), 2 D2 (in), 3 ~{LT} (in), 4 ~{BL} (in), 5 ~{LE} (in), 6 D3 (in), 7 D0 (in), 8 GND (power), 9 e (out), 10 d (out), 11 c (out), 12 b (out), 13 a (out), 14 g (out), 15 f (out), 16 VCC (power)

## CD74HCT4543E
designator U?
High Speed CMOS Logic BCD-to-7-Segment Latch / Decoder / Driver for LCDs, 4.5 to 5.5 V, -55 to 125 degC, 16-pin DIP (N16), Pb-Free (RoHS); Manufacturer: Texas Instruments; PartNumber: CD74HCT4543E; Rating: Catalog; SubFamily: Discrete Segment LED Driver; Vin(Max)(V): 5.5; Vin(Min)(V): 4.5; DatasheetVersion: SCHS281A; PackageVersion: 4040049/E; PackageReference: N16; PackageDescription: 16-Pin Plastic In-Line, Body 19.305 x 6.35 mm, Pitch 2.54 mm; Supplier 1: Digi-Key; Supplier Part Number 1: 296-33160-5-ND; Supplier 2: Newark; Supplier Part Number 2: 74C8246; Supplier 3: Mouser; Supplier Part Number 3: 595-CD74HCT4543E; Eco-Plan: Pb-Free (RoHS); Mounting Technology: Through Hole; Code_JEDEC: MS-001; ComponentLink1Description: Manufacturer URL; ComponentLink1URL: http://www.ti.com/; ComponentLink2Description: Datasheet; ComponentLink2URL: http://www.ti.com/general/docs/lit/getliterature.tsp?genericPartNumber=CD74HCT4543&fileType=pdf; ComponentLink3Description: Package Specification; ComponentLink3URL: http://www.ti.com/litv/pdf/mpdi002c
footprint TI-N16 (DIP, 16-Leads, Body 19.305x6.35 mm, Pitch 2.54 mm)
pins: 1 LD (in), 2 D2 (in), 3 D1 (in), 4 D3 (in), 5 D0 (in), 6 PH (in), 7 BI (in), 8 GND (power), 9 a (out), 10 b (out), 11 c (out), 12 d (out), 13 e (out), 14 g (out), 15 f (out), 16 VCC (power)

## CD74HCT4543EE4
designator U?
High Speed CMOS Logic BCD-to-7-Segment Latch / Decoder / Driver for LCDs, 4.5 to 5.5 V, -55 to 125 degC, 16-pin DIP (N16), Pb-Free (RoHS); Manufacturer: Texas Instruments; PartNumber: CD74HCT4543EE4; Rating: Catalog; SubFamily: Discrete Segment LED Driver; Vin(Max)(V): 5.5; Vin(Min)(V): 4.5; DatasheetVersion: SCHS281A; PackageVersion: 4040049/E; PackageReference: N16; PackageDescription: 16-Pin Plastic In-Line, Body 19.305 x 6.35 mm, Pitch 2.54 mm; Supplier 1: Digi-Key; Supplier Part Number 1: CD74HCT4543EE4-ND; Supplier 2: Newark; Supplier Part Number 2: 36K9385; Supplier 3: Mouser; Supplier Part Number 3: 595-CD74HCT4543EE4; Eco-Plan: Pb-Free (RoHS); Mounting Technology: Through Hole; Code_JEDEC: MS-001; ComponentLink1Description: Manufacturer URL; ComponentLink1URL: http://www.ti.com/; ComponentLink2Description: Datasheet; ComponentLink2URL: http://www.ti.com/general/docs/lit/getliterature.tsp?genericPartNumber=CD74HCT4543&fileType=pdf; ComponentLink3Description: Package Specification; ComponentLink3URL: http://www.ti.com/litv/pdf/mpdi002c
footprint TI-N16 (DIP, 16-Leads, Body 19.305x6.35 mm, Pitch 2.54 mm)
pins: 1 LD (in), 2 D2 (in), 3 D1 (in), 4 D3 (in), 5 D0 (in), 6 PH (in), 7 BI (in), 8 GND (power), 9 a (out), 10 b (out), 11 c (out), 12 d (out), 13 e (out), 14 g (out), 15 f (out), 16 VCC (power)

## CD4055BE
designator U?
CMOS BCD-to-7-Segment LCD Decoder / Driver with Display-Frequency Output, 3 to 18 V, -55 to 125 degC, 16-pin DIP (N16), Pb-Free (RoHS); Manufacturer: Texas Instruments; PartNumber: CD4055BE; Rating: Catalog; SubFamily: Discrete Segment LED Driver; Vin(Max)(V): 18; Vin(Min)(V): 3; DatasheetVersion: SCHS048C; PackageVersion: 4040049/E; PackageReference: N16; PackageDescription: 16-Pin Plastic In-Line, Body 19.305 x 6.35 mm, Pitch 2.54 mm; Supplier 1: Digi-Key; Supplier Part Number 1: 296-14275-5-ND; Supplier 2: Farnell; Supplier Part Number 2: 1739794; Supplier 3: Newark; Supplier Part Number 3: 50R5067; Supplier 4: Newark; Supplier Part Number 4: 06F2538; Supplier 5: Mouser; Supplier Part Number 5: 595-CD4055BE; Eco-Plan: Pb-Free (RoHS); Mounting Technology: Through Hole; Code_JEDEC: MS-001; ComponentLink1Description: Manufacturer URL; ComponentLink1URL: http://www.ti.com/; ComponentLink2Description: Datasheet; ComponentLink2URL: http://www.ti.com/general/docs/lit/getliterature.tsp?genericPartNumber=CD4055B&fileType=pdf; ComponentLink3Description: Package Specification; ComponentLink3URL: http://www.ti.com/litv/pdf/mpdi002c
footprint TI-N16 (DIP, 16-Leads, Body 19.305x6.35 mm, Pitch 2.54 mm)
pins: 1 DFOUT (out), 2 BCD2^2 (in), 3 BCD2^1 (in), 4 BCD2^3 (in), 5 BCD2^0 (in), 6 DFIN (in), 7 VEE (power), 8 VSS (power), 9 a (out), 10 b (out), 11 c (out), 12 d (out), 13 e (out), 14 g (out), 15 f (out), 16 VDD (power)

## CD4055BEE4
designator U?
CMOS BCD-to-7-Segment LCD Decoder / Driver with Display-Frequency Output, 3 to 18 V, -55 to 125 degC, 16-pin DIP (N16), Pb-Free (RoHS); Manufacturer: Texas Instruments; PartNumber: CD4055BEE4; Rating: Catalog; SubFamily: Discrete Segment LED Driver; Vin(Max)(V): 18; Vin(Min)(V): 3; DatasheetVersion: SCHS048C; PackageVersion: 4040049/E; PackageReference: N16; PackageDescription: 16-Pin Plastic In-Line, Body 19.305 x 6.35 mm, Pitch 2.54 mm; Supplier 1: Digi-Key; Supplier Part Number 1: CD4055BEE4-ND; Supplier 2: Newark; Supplier Part Number 2: 88K3484; Supplier 3: Mouser; Supplier Part Number 3: 595-CD4055BEE4; Eco-Plan: Pb-Free (RoHS); Mounting Technology: Through Hole; Code_JEDEC: MS-001; ComponentLink1Description: Manufacturer URL; ComponentLink1URL: http://www.ti.com/; ComponentLink2Description: Datasheet; ComponentLink2URL: http://www.ti.com/general/docs/lit/getliterature.tsp?genericPartNumber=CD4055B&fileType=pdf; ComponentLink3Description: Package Specification; ComponentLink3URL: http://www.ti.com/litv/pdf/mpdi002c
footprint TI-N16 (DIP, 16-Leads, Body 19.305x6.35 mm, Pitch 2.54 mm)
pins: 1 DFOUT (out), 2 BCD2^2 (in), 3 BCD2^1 (in), 4 BCD2^3 (in), 5 BCD2^0 (in), 6 DFIN (in), 7 VEE (power), 8 VSS (power), 9 a (out), 10 b (out), 11 c (out), 12 d (out), 13 e (out), 14 g (out), 15 f (out), 16 VDD (power)

## CD4055BM
designator U?
CMOS BCD-to-7-Segment LCD Decoder / Driver with Display-Frequency Output, 3 to 18 V, -55 to 125 degC, 16-pin SOIC (D16), Green (RoHS & no Sb/Br); Manufacturer: Texas Instruments; PartNumber: CD4055BM; Rating: Catalog; SubFamily: Discrete Segment LED Driver; Vin(Max)(V): 18; Vin(Min)(V): 3; DatasheetVersion: SCHS048C; PackageVersion: 4040047-6/M; PackageReference: D16; PackageDescription: 16-Pin Plastic Small Outline, Body 9.90 x 3.90 mm, Pitch 1.27 mm; Supplier 1: Digi-Key; Supplier Part Number 1: 296-32898-5-ND; Supplier 2: Farnell; Supplier Part Number 2: 1753424; Supplier 3: Newark; Supplier Part Number 3: 50R5068; Supplier 4: Newark; Supplier Part Number 4: 66H9652; Supplier 5: Mouser; Supplier Part Number 5: 595-CD4055BM; Eco-Plan: Green (RoHS & no Sb/Br); Mounting Technology: Surface Mount; Code_JEDEC: MS-012; ComponentLink1Description: Manufacturer URL; ComponentLink1URL: http://www.ti.com/; ComponentLink2Description: Datasheet; ComponentLink2URL: http://www.ti.com/general/docs/lit/getliterature.tsp?genericPartNumber=CD4055B&fileType=pdf; ComponentLink3Description: Package Specification; ComponentLink3URL: http://www.ti.com/litv/pdf/mpds178g
footprint TI-D16_N (SOIC, 16-Leads, Body 9.9x3.9mm, Pitch 1.27mm, IPC Medium Density)
footprint TI-D16_L (SOIC, 16-Leads, Body 9.9x3.9mm, Pitch 1.27mm, IPC High Density)
footprint TI-D16_M (SOIC, 16-Leads, Body 9.9x3.9mm, Pitch 1.27mm, IPC Low Density)
pins: 1 DFOUT (out), 2 BCD2^2 (in), 3 BCD2^1 (in), 4 BCD2^3 (in), 5 BCD2^0 (in), 6 DFIN (in), 7 VEE (power), 8 VSS (power), 9 a (out), 10 b (out), 11 c (out), 12 d (out), 13 e (out), 14 g (out), 15 f (out), 16 VDD (power)

## CD4055BME4
designator U?
CMOS BCD-to-7-Segment LCD Decoder / Driver with Display-Frequency Output, 3 to 18 V, -55 to 125 degC, 16-pin SOIC (D16), Green (RoHS & no Sb/Br); Manufacturer: Texas Instruments; PartNumber: CD4055BME4; Rating: Catalog; SubFamily: Discrete Segment LED Driver; Vin(Max)(V): 18; Vin(Min)(V): 3; DatasheetVersion: SCHS048C; PackageVersion: 4040047-6/M; PackageReference: D16; PackageDescription: 16-Pin Plastic Small Outline, Body 9.90 x 3.90 mm, Pitch 1.27 mm; Supplier 1: Digi-Key; Supplier Part Number 1: CD4055BME4-ND; Supplier 2: Newark; Supplier Part Number 2: 36K8716; Supplier 3: Mouser; Supplier Part Number 3: 595-CD4055BME4; Eco-Plan: Green (RoHS & no Sb/Br); Mounting Technology: Surface Mount; Code_JEDEC: MS-012; ComponentLink1Description: Manufacturer URL; ComponentLink1URL: http://www.ti.com/; ComponentLink2Description: Datasheet; ComponentLink2URL: http://www.ti.com/general/docs/lit/getliterature.tsp?genericPartNumber=CD4055B&fileType=pdf; ComponentLink3Description: Package Specification; ComponentLink3URL: http://www.ti.com/litv/pdf/mpds178g
footprint TI-D16_N (SOIC, 16-Leads, Body 9.9x3.9mm, Pitch 1.27mm, IPC Medium Density)
footprint TI-D16_L (SOIC, 16-Leads, Body 9.9x3.9mm, Pitch 1.27mm, IPC High Density)
footprint TI-D16_M (SOIC, 16-Leads, Body 9.9x3.9mm, Pitch 1.27mm, IPC Low Density)
pins: 1 DFOUT (out), 2 BCD2^2 (in), 3 BCD2^1 (in), 4 BCD2^3 (in), 5 BCD2^0 (in), 6 DFIN (in), 7 VEE (power), 8 VSS (power), 9 a (out), 10 b (out), 11 c (out), 12 d (out), 13 e (out), 14 g (out), 15 f (out), 16 VDD (power)

## CD4055BMG4
designator U?
CMOS BCD-to-7-Segment LCD Decoder / Driver with Display-Frequency Output, 3 to 18 V, -55 to 125 degC, 16-pin SOIC (D16), Green (RoHS & no Sb/Br); Manufacturer: Texas Instruments; PartNumber: CD4055BMG4; Rating: Catalog; SubFamily: Discrete Segment LED Driver; Vin(Max)(V): 18; Vin(Min)(V): 3; DatasheetVersion: SCHS048C; PackageVersion: 4040047-6/M; PackageReference: D16; PackageDescription: 16-Pin Plastic Small Outline, Body 9.90 x 3.90 mm, Pitch 1.27 mm; Supplier 1: Digi-Key; Supplier Part Number 1: CD4055BMG4-ND; Supplier 2: Newark; Supplier Part Number 2: 41M2468; Supplier 3: Mouser; Supplier Part Number 3: 595-CD4055BMG4; Eco-Plan: Green (RoHS & no Sb/Br); Mounting Technology: Surface Mount; Code_JEDEC: MS-012; ComponentLink1Description: Manufacturer URL; ComponentLink1URL: http://www.ti.com/; ComponentLink2Description: Datasheet; ComponentLink2URL: http://www.ti.com/general/docs/lit/getliterature.tsp?genericPartNumber=CD4055B&fileType=pdf; ComponentLink3Description: Package Specification; ComponentLink3URL: http://www.ti.com/litv/pdf/mpds178g
footprint TI-D16_N (SOIC, 16-Leads, Body 9.9x3.9mm, Pitch 1.27mm, IPC Medium Density)
footprint TI-D16_L (SOIC, 16-Leads, Body 9.9x3.9mm, Pitch 1.27mm, IPC High Density)
footprint TI-D16_M (SOIC, 16-Leads, Body 9.9x3.9mm, Pitch 1.27mm, IPC Low Density)
pins: 1 DFOUT (out), 2 BCD2^2 (in), 3 BCD2^1 (in), 4 BCD2^3 (in), 5 BCD2^0 (in), 6 DFIN (in), 7 VEE (power), 8 VSS (power), 9 a (out), 10 b (out), 11 c (out), 12 d (out), 13 e (out), 14 g (out), 15 f (out), 16 VDD (power)

## CD4055BMT
designator U?
CMOS BCD-to-7-Segment LCD Decoder / Driver with Display-Frequency Output, 3 to 18 V, -55 to 125 degC, 16-pin SOIC (D16), Green (RoHS & no Sb/Br); Manufacturer: Texas Instruments; PartNumber: CD4055BMT; Rating: Catalog; SubFamily: Discrete Segment LED Driver; Vin(Max)(V): 18; Vin(Min)(V): 3; DatasheetVersion: SCHS048C; PackageVersion: 4040047-6/M; PackageReference: D16; PackageDescription: 16-Pin Plastic Small Outline, Body 9.90 x 3.90 mm, Pitch 1.27 mm; Supplier 1: Digi-Key; Supplier Part Number 1: CD4055BMT-ND; Supplier 2: Farnell; Supplier Part Number 2: 1753166; Supplier 3: Farnell; Supplier Part Number 3: 1753166RL; Supplier 4: Mouser; Supplier Part Number 4: 595-CD4055BMT; Eco-Plan: Green (RoHS & no Sb/Br); Mounting Technology: Surface Mount; Code_JEDEC: MS-012; ComponentLink1Description: Manufacturer URL; ComponentLink1URL: http://www.ti.com/; ComponentLink2Description: Datasheet; ComponentLink2URL: http://www.ti.com/general/docs/lit/getliterature.tsp?genericPartNumber=CD4055B&fileType=pdf; ComponentLink3Description: Package Specification; ComponentLink3URL: http://www.ti.com/litv/pdf/mpds178g
footprint TI-D16_N (SOIC, 16-Leads, Body 9.9x3.9mm, Pitch 1.27mm, IPC Medium Density)
footprint TI-D16_L (SOIC, 16-Leads, Body 9.9x3.9mm, Pitch 1.27mm, IPC High Density)
footprint TI-D16_M (SOIC, 16-Leads, Body 9.9x3.9mm, Pitch 1.27mm, IPC Low Density)
pins: 1 DFOUT (out), 2 BCD2^2 (in), 3 BCD2^1 (in), 4 BCD2^3 (in), 5 BCD2^0 (in), 6 DFIN (in), 7 VEE (power), 8 VSS (power), 9 a (out), 10 b (out), 11 c (out), 12 d (out), 13 e (out), 14 g (out), 15 f (out), 16 VDD (power)